# Altium footprint library QFP_Thin_Sq_65P_Side_V.PcbLib: 1 footprints
Each footprint in its own frame and in the unit in brackets; x right, y up, seen from the top. Pads: shape width x height; smd on the part's side, far side on the other; paste and mask are expansions set on the pad; w line width, h text height; cw(c..) or ccw(c..) is an arc to the next point about the centre after c.
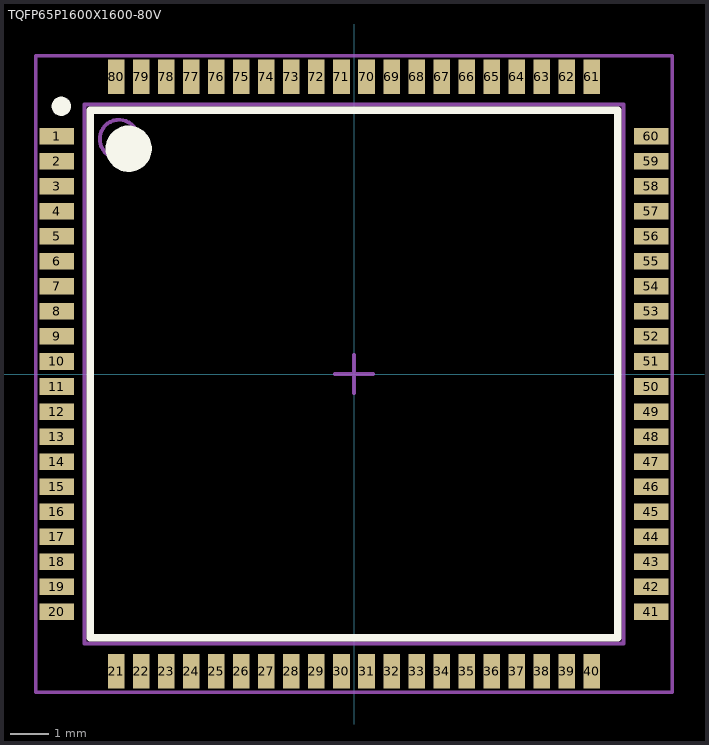
[diagram p0: the footprint, top view; thin cyan lines are the x and y axes]

## TQFP65P1600X1600-80V [mm] "Thin QFP, 100-Leads, Body 14x14mm, Pitch 0.5mm, AD Recommended"
height 1.6
pads (80):
  rect 0.89x0.43 smd: 1(-7.715,6.175) 2(-7.715,5.525) 3(-7.715,4.875) 4(-7.715,4.225) 5(-7.715,3.575) 6(-7.715,2.925) 7(-7.715,2.275) 8(-7.715,1.625) 9(-7.715,0.975) 10(-7.715,0.325) 11(-7.715,-0.325) 12(-7.715,-0.975) 13(-7.715,-1.625) 14(-7.715,-2.275) 15(-7.715,-2.925) 16(-7.715,-3.575) 17(-7.715,-4.225) 18(-7.715,-4.875) 19(-7.715,-5.525) 20(-7.715,-6.175) 41(7.715,-6.175) 42(7.715,-5.525) 43(7.715,-4.875) 44(7.715,-4.225) 45(7.715,-3.575) 46(7.715,-2.925) 47(7.715,-2.275) 48(7.715,-1.625) 49(7.715,-0.975) 50(7.715,-0.325) 51(7.715,0.325) 52(7.715,0.975) 53(7.715,1.625) 54(7.715,2.275) 55(7.715,2.925) 56(7.715,3.575) 57(7.715,4.225) 58(7.715,4.875) 59(7.715,5.525) 60(7.715,6.175)
  rect 0.43x0.89 smd: 21(-6.175,-7.715) 22(-5.525,-7.715) 23(-4.875,-7.715) 24(-4.225,-7.715) 25(-3.575,-7.715) 26(-2.925,-7.715) 27(-2.275,-7.715) 28(-1.625,-7.715) 29(-0.975,-7.715) 30(-0.325,-7.715) 31(0.325,-7.715) 32(0.975,-7.715) 33(1.625,-7.715) 34(2.275,-7.715) 35(2.925,-7.715) 36(3.575,-7.715) 37(4.225,-7.715) 38(4.875,-7.715) 39(5.525,-7.715) 40(6.175,-7.715) 61(6.175,7.715) 62(5.525,7.715) 63(4.875,7.715) 64(4.225,7.715) 65(3.575,7.715) 66(2.925,7.715) 67(2.275,7.715) 68(1.625,7.715) 69(0.975,7.715) 70(0.325,7.715) 71(-0.325,7.715) 72(-0.975,7.715) 73(-1.625,7.715) 74(-2.275,7.715) 75(-2.925,7.715) 76(-3.575,7.715) 77(-4.225,7.715) 78(-4.875,7.715) 79(-5.525,7.715) 80(-6.175,7.715)
Top Overlay:
  circle w0.25: c-7.6,6.95 r0.125
  circle w0.6: c-5.85,5.85 r0.3
  lines w0.2: -6.85,-6.85 -6.85,6.85 6.85,6.85 6.85,-6.85 -6.85,-6.85
Mechanical 13:
  circle w0.1: c-6.1,6.1 r0.5
  lines w0.1: -7,-7 -7,7 7,7 7,-7 -7,-7
Mechanical 15:
  lines w0.1: -0.5,0 0.5,0 ; 0,-0.5 0,0.5 ; -8.26,-8.26 -8.26,8.26 8.26,8.26 8.26,-8.26 -8.26,-8.26
3D body: height 1.6, standoff 0.05, extent -7,-7 7,7